# Altium footprint library 17-Pcblib_Sensor.PcbLib: 7 footprints
Each footprint in its own frame and in the unit in brackets; x right, y up, seen from the top. Pads: shape width x height; smd on the part's side, far side on the other; paste and mask are expansions set on the pad; w line width, h text height; cw(c..) or ccw(c..) is an arc to the next point about the centre after c.
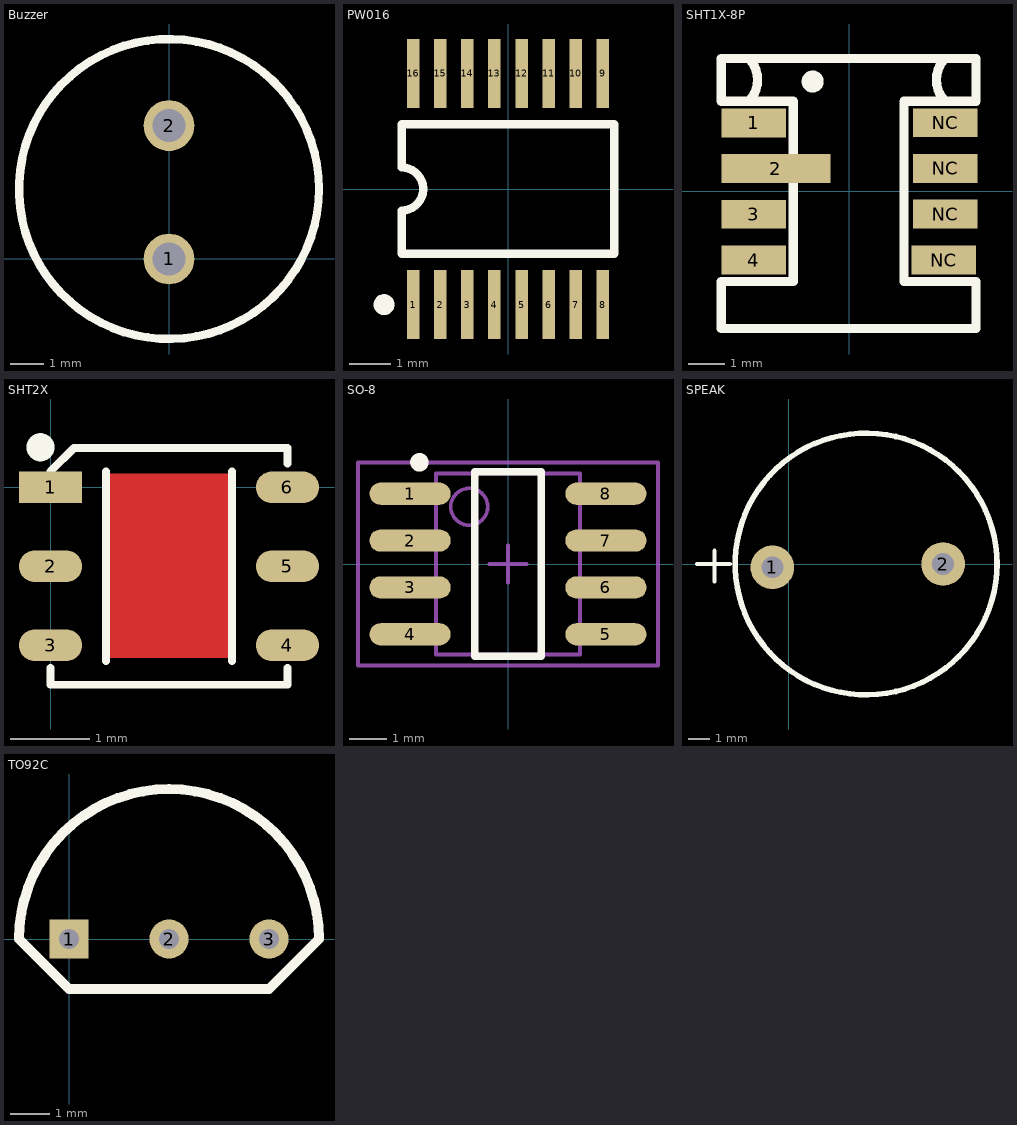
[diagram p0: the footprints below, top view; thin cyan lines are the x and y axes]

## Buzzer [mil]
pads (2):
  round 60 hole 39: 1(0,0) 2(0,157.48)
Top Overlay:
  circle w10: c0,82.64 r177.17
3D body: height 299, standoff -78.74, extent -236.22,-156.21 236.22,316.23

## PW016 [mm] "Shrink Small Outline; 16 Leads; Body Width 4.4 mm; Pitch 0.65 mm"
height 1.2
pads (16):
  rect 0.3x1.65 smd: 1(-2.275,-2.775) 2(-1.625,-2.775) 3(-0.975,-2.775) 4(-0.325,-2.775) 5(0.325,-2.775) 6(0.975,-2.775) 7(1.625,-2.775) 8(2.275,-2.775) 9(2.275,2.775) 10(1.625,2.775) 11(0.975,2.775) 12(0.325,2.775) 13(-0.325,2.775) 14(-0.975,2.775) 15(-1.625,2.775) 16(-2.275,2.775)
Top Overlay:
  circle w0.25: c-2.975,-2.775 r0.125
  lines w0.2: -2.55,-1.55 -2.55,-0.517 ccw(c-2.55,0) -2.55,0.517 -2.55,1.55 2.55,1.55 2.55,-1.55 -2.55,-1.55

## SHT1X-8P [mm] "温湿度传感器SHT1X系列"
height 2.032
pads (8):
  rect 1.8x0.8 smd: 1(-2.661,1.903) 3(-2.661,-0.637) 4(-2.661,-1.907) NC(2.619,-1.907) NC(2.662,-0.632) NC(2.662,0.638) NC(2.662,1.908)
  rect 3.04x0.8 smd: 2(-2.041,0.633)
Top Overlay:
  circle w0.254: c-1.021,3.051 r0.18
  lines w0.254: -2.799,2.503 ccw(c-3.394,3.098) -2.799,3.693 ; -1.148,3.178 -0.842,3.051 ; 2.662,2.503 cw(c3.257,3.098) 2.662,3.693 ; -3.561,-3.807 3.519,-3.807 3.519,-2.507 1.519,-2.507 1.519,2.503 3.519,2.503 3.519,3.693 -3.561,3.693 -3.561,2.503 -1.561,2.503 -1.561,-2.507 -3.561,-2.507 -3.561,-3.807
3D body: height 2.5, standoff 0, extent -2.471,-3.853 2.529,3.647

## SHT2X [mm]
pads (6):
  rect 0.8x0.4 smd: 1(0,0)
  oval 0.8x0.4 smd: 2(0,-1) 3(0,-2) 4(3,-2) 5(3,-1) 6(3,0)
Top Layer:
  rectangle: 0.711,-2.159 2.286,0.178
Top Overlay:
  circle w0.254: c-0.127,0.508 r0.051
  lines w0.1: 0,-2.286 0,-2.5 3,-2.5 3,-2.289 ; 0,0.203 0.297,0.5 3,0.5 3,0.305 ; 0.7,-2.2 0.7,0.2 ; 2.3,-2.2 2.3,0.2
3D body: height 1.1, standoff -0.02, extent -0.01,-2.492 3.01,0.508

## SO-8 [mm] "SOIC"
height 1.75
pads (8):
  oval 2.2x0.6 smd: 1(-2.654,1.905) 2(-2.654,0.635) 3(-2.654,-0.635) 4(-2.654,-1.905) 5(2.654,-1.905) 6(2.654,-0.635) 7(2.654,0.635) 8(2.654,1.905)
Top Overlay:
  circle w0.25: c-2.4,2.755 r0.125
  lines w0.2: -0.9,-2.5 -0.9,2.5 0.9,2.5 0.9,-2.5 -0.9,-2.5
Mechanical 13:
  circle w0.1: c-1.05,1.55 r0.5
  lines w0.1: -1.95,-2.45 -1.95,2.45 1.95,2.45 1.95,-2.45 -1.95,-2.45
Mechanical 15:
  lines w0.1: -0.5,0 0.5,0 ; 0,-0.5 0,0.5 ; -4.064,-2.75 -4.064,2.75 4.064,2.75 4.064,-2.75 -4.064,-2.75
3D body: height 1.7, standoff 0, extent -3,-2.413 3,2.487

## SPEAK [mm]
height 0.6
pads (2):
  round 2 hole 1: 1(-0.762,-0.152) 2(7.064,0)
Top Overlay:
  circle w0.254: c3.532,0 r6
  lines w0.2: -4.216,0 -2.716,0 ; -3.416,-0.8 -3.416,0.6
3D body: height 9.65, standoff -4.5, extent -5.974,-6.234 9.48,5.766

## TO92C [mm]
pads (3):
  rect 1x1 hole 0.5: 1(0,0)
  round 1 hole 0.5: 2(2.54,0) 3(5.08,0)
Top Overlay:
  lines w0.254: -1.27,0 cw(c2.54,0) 6.35,0 5.08,-1.27 0,-1.27 -1.27,0